# Altium footprint library XT60PW-M.PcbLib: 1 footprints
Each footprint in its own frame and in the unit in brackets; x right, y up, seen from the top. Pads: shape width x height; smd on the part's side, far side on the other; paste and mask are expansions set on the pad; w line width, h text height; cw(c..) or ccw(c..) is an arc to the next point about the centre after c.
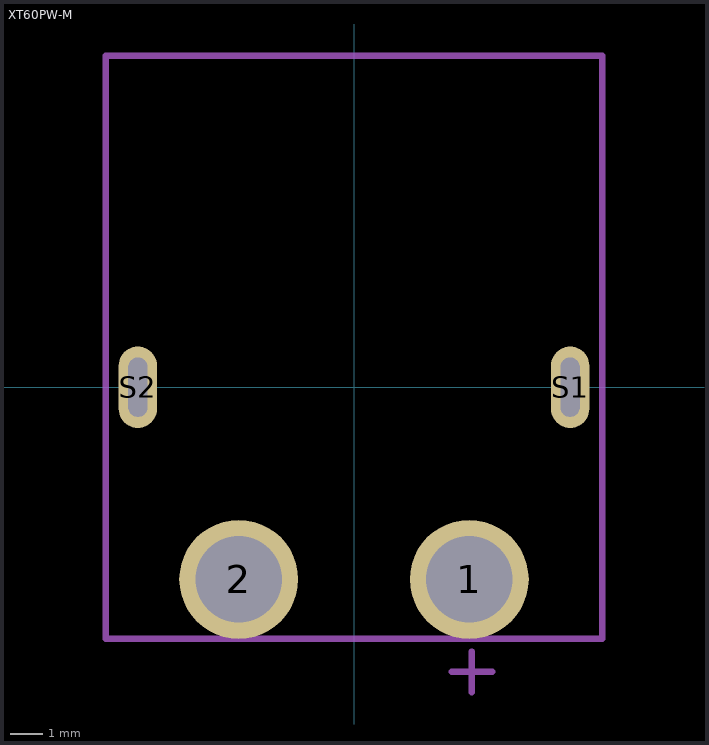
[diagram p0: the footprint, top view; thin cyan lines are the x and y axes]

## XT60PW-M [mm]
height 8.4
pads (4):
  round 3.716 hole 2.7: 1(3.6,-6) 2(-3.6,-6)
  oval 1.2x2.55 hole 0.6 slot 1.85 at 90 deg: S1(6.75,0) S2(-6.75,0)
Mechanical 1:
  lines w0.2: 3.048,-8.89 3.683,-8.89 ; 3.683,-9.525 3.683,-8.89 ; 3.683,-8.255 3.683,-8.89 ; 4.318,-8.89 3.683,-8.89 ; -7.75,-7.85 7.75,-7.85 7.75,10.35 -7.75,10.35 -7.75,-7.85
3D body "XT60PW-M Cap.step": height 8.4, standoff 0, extent -7.75,-7.95 7.75,-3.7
3D body "XT60PW-M NoCap.step": height 8.45, standoff -3, extent -7.95,-7.251 7.95,10.35